# Altium integrated library connector.IntLib: 180 symbols
Pins are listed as number, name and electrical type; pins without a type are passive.

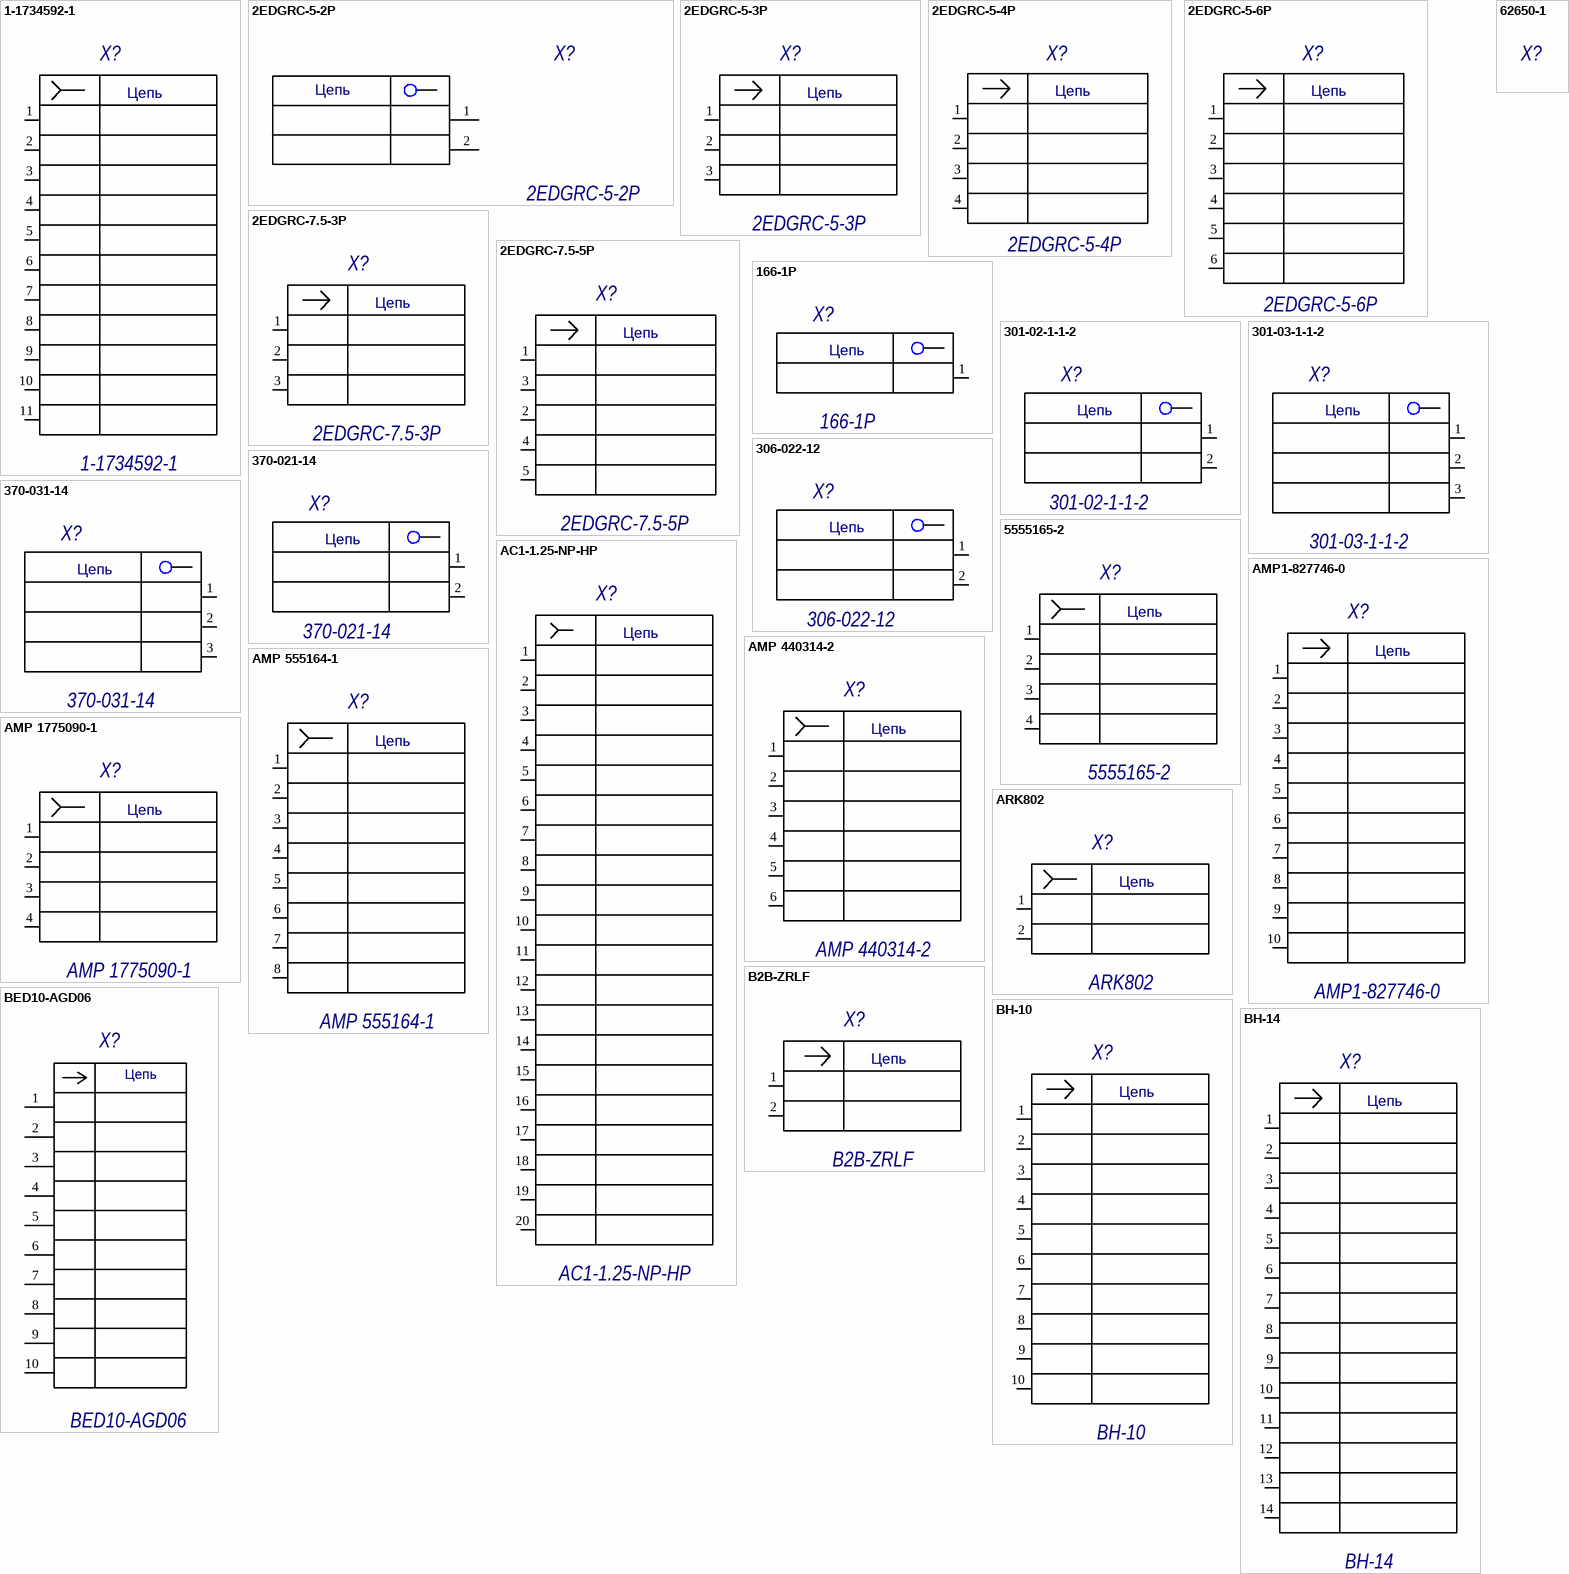
[diagram p0: symbols 1-1734592-1 to BH-14]

## 1-1734592-1
designator X?
Value: *
footprint 1-1734592-1
pins: 1 A1, 2 A2, 3 A3, 4 A4, 5 A5, 6 A6, 7 A7, 8 A8, 9 A9, 10 A10, 11 A11
text: Цепь

## 2EDGRC-5-2P
designator X?
Value: *
footprint 2EDGRC-5-2P
pins: 1 A1, 2 A2
text: Цепь

## 2EDGRC-5-3P
designator X?
Value: *
footprint 2EDGRC-5-3P
pins: 1 A1, 2 A2, 3 A3
text: Цепь

## 2EDGRC-5-4P
designator X?
Value: *
footprint 2EDGRC-5-4P
pins: 1 A1, 2 A2, 3 A3, 4 A4
text: Цепь

## 2EDGRC-5-6P
designator X?
Value: *
footprint 2EDGRC-5-6P
pins: 1 A1, 2 A2, 3 A3, 4 A4, 5 A5, 6 A6
text: Цепь

## 2EDGRC-7.5-3P
designator X?
Value: *
footprint 2EDGRC-7.5-3P
pins: 1 A1, 2 A2, 3 A3
text: Цепь

## 2EDGRC-7.5-5P
designator X?
Value: *
footprint 2EDGRC-7.5-5P
pins: 1 A1, 2 A3, 3 A2, 4 A4, 5 A5
text: Цепь

## 166-1P
designator X?
Value: *
footprint 166-1P
pins: 1 A1
text: Цепь

## 301-02-1-1-2
designator X?
Value: *
footprint 301-02-1-1-2
pins: 1 A1, 2 A2
text: Цепь

## 301-03-1-1-2
designator X?
Value: *
footprint 301-03-1-1-2
pins: 1 A1, 2 A2, 3 A3
text: Цепь

## 306-022-12
designator X?
Value: *
footprint 306-022-12
pins: 1 A1, 2 A2
text: Цепь

## 370-021-14
designator X?
Value: *
footprint PK700/2/500-V
pins: 1 A1, 2 A2
text: Цепь

## 370-031-14
designator X?
Value: *
footprint PK700/3/500-V
pins: 1 A1, 2 A2, 3 A3
text: Цепь

## 62650-1
designator X?  (value not drawn)
Value: *
footprint 62650-1

## 5555165-2
designator X?
Value: *
footprint 5555165-2
pins: 1 A1, 2 A2, 3 A3, 4 A4, 5 hidden, 6 hidden
text: Цепь

## AC1-1.25-NP-HP
designator X?
Value: *
footprint AC1-1.25-NP-HP
pins: 1 A1, 2 A2, 3 A3, 4 A4, 5 A5, 6 A6, 7 A7, 8 A8, 9 A9, 10 A10, 11 A11, 12 A12, 13 A13, 14 A14, 15 A15, 16 A16, 17 A17, 18 A18, 19 A19, 20 A20
text: Цепь

## AMP1-827746-0
designator X?
Value: *
footprint AMP1-827746-0
pins: 1 A1, 2 A2, 3 A3, 4 A4, 5 A5, 6 A6, 7 A7, 8 A8, 9 A9, 10 A10
text: Цепь

## AMP 440314-2
designator X?
Value: *
footprint AMP 440314-2
pins: 1 A1, 2 A2, 3 A3, 4 A4, 5 A5, 6 A6
text: Цепь

## AMP 555164-1
designator X?
Value: *
footprint AMP 555164-1
pins: 1 A1, 2 A2, 3 A3, 4 A4, 5 A5, 6 A6, 7 A7, 8 A8, 9 hidden, 10 hidden
text: Цепь

## AMP 1775090-1
designator X?
Value: *
footprint AMP1775090-1
pins: 1 A1, 2 A2, 3 A3, 4 A4, 5 hidden, 6 hidden
text: Цепь

## ARK802
designator X?
Value: *
footprint ARK802
pins: 1 A1, 2 A2
text: Цепь

## B2B-ZRLF
designator X?
Value: *
footprint B2B-ZRLF
pins: 1 A1, 2 A2
text: Цепь

## BED10-AGD06
designator X?
Value: *
footprint BED10-AGD06
pins: 1 A1, 2 A2, 3 A3, 4 A4, 5 A5, 6 A6, 7 A7, 8 A8, 9 A9, 10 A10
text: Цепь

## BH-10
designator X?
Value: *
footprint BH-10
pins: 1 A1, 2 A2, 3 A3, 4 A4, 5 A5, 6 A6, 7 A7, 8 A8, 9 A9, 10 A10
text: Цепь

## BH-14
designator X?
Value: *
footprint BH-14
pins: 1 A1, 2 A2, 3 A3, 4 A4, 5 A5, 6 A6, 7 A7, 8 A8, 9 A9, 10 A10, 11 A11, 12 A12, 13 A13, 14 A14
text: Цепь

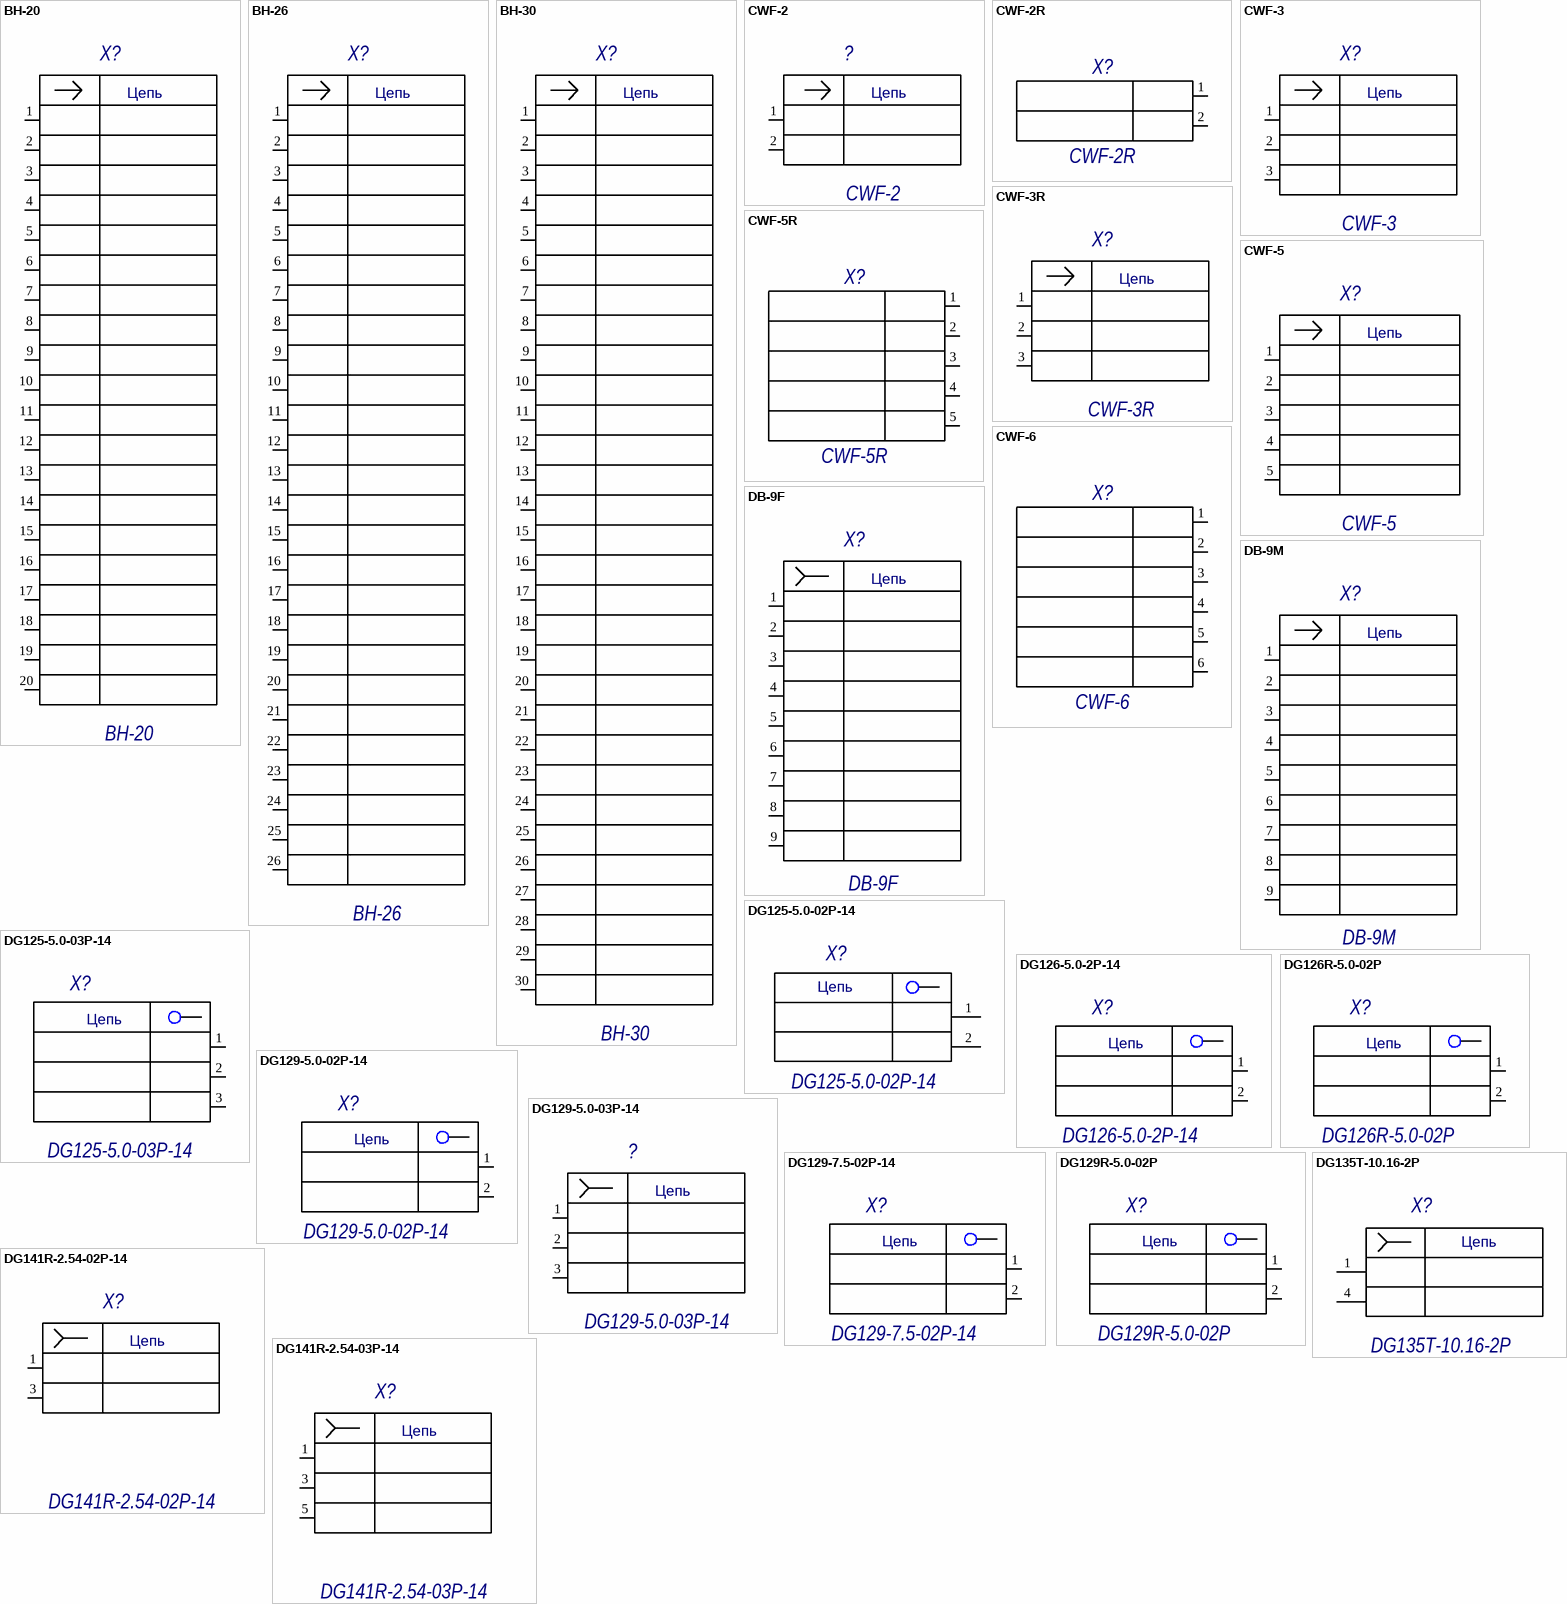
[diagram p1: symbols BH-20 to DG141R-2.54-03P-14]

## BH-20
designator X?
Value: *
footprint BH-20
pins: 1 A1, 2 A2, 3 A3, 4 A4, 5 A5, 6 A6, 7 A7, 8 A8, 9 A9, 10 A10, 11 A11, 12 A12, 13 A13, 14 A14, 15 A15, 16 A16, 17 A17, 18 A18, 19 A19, 20 A20
text: Цепь

## BH-26
designator X?
Value: *
footprint BH-26
pins: 1 A1, 2 A2, 3 A3, 4 A4, 5 A5, 6 A6, 7 A7, 8 A8, 9 A9, 10 A10, 11 A3, 12 A4, 13 A5, 14 A6, 15 A7, 16 A8, 17 A9, 18 A10, 19 A3, 20 A4, 21 A5, 22 A6, 23 A7, 24 A8, 25 A9, 26 A10
text: Цепь

## BH-30
designator X?
Value: *
footprint BH-30
pins: 1 A1, 2 A2, 3 A3, 4 A4, 5 A5, 6 A6, 7 A7, 8 A8, 9 A9, 10 A10, 11 A3, 12 A4, 13 A5, 14 A6, 15 A7, 16 A8, 17 A9, 18 A10, 19 A3, 20 A4, 21 A5, 22 A6, 23 A7, 24 A8, 25 A9, 26 A10, 27 A7, 28 A8, 29 A9, 30 A10
text: Цепь

## CWF-2
designator ?
Value: *
footprint CWF-2
pins: 1 A1, 2 A2
text: Цепь

## CWF-2R
designator X?
Value: *
footprint CWF-2R
pins: 1, 2

## CWF-3
designator X?
Value: *
footprint CWF-3
pins: 1 A1, 2 A2, 3 A3
text: Цепь

## CWF-3R
designator X?
Value: *
footprint CWF-3R
pins: 1 A1, 2 A2, 3 A3
text: Цепь

## CWF-5
designator X?
Value: *
footprint CWF-5
pins: 1 A1, 2 A2, 3 A3, 4 A4, 5 A5
text: Цепь

## CWF-5R
designator X?
Value: *
footprint CWF-5R
pins: 1, 2, 3, 4, 5

## CWF-6
designator X?
Value: *
footprint CWF-6
pins: 1, 2, 3, 4, 5, 6

## DB-9F
designator X?
Value: *
footprint DB9F
pins: 1 A1, 2 A2, 3 A3, 4 A4, 5 A5, 6 A6, 7 A7, 8 A8, 9 A9, 10 hidden, 11 hidden
text: Цепь

## DB-9M
designator X?
Value: *
footprint DB9M
pins: 1 A1, 2 A2, 3 A3, 4 A4, 5 A5, 6 A6, 7 A7, 8 A8, 9 A9, 10 hidden, 11 hidden
text: Цепь

## DG125-5.0-02P-14
designator X?
Value: *
footprint DG125-5.0-02P-14
pins: 1 A1, 2 A2
text: Цепь

## DG125-5.0-03P-14
designator X?
Value: *
footprint DG125-5.0-03P-14
pins: 1 A1, 2 A2, 3 A3
text: Цепь

## DG126-5.0-2P-14
designator X?
Value: *
footprint DG126-5.0-2P-14 (Terminal block)
pins: 1 A1, 2 A2
text: Цепь

## DG126R-5.0-02P
designator X?
Value: *
footprint DG126R-5.0
pins: 1 A1, 2 A2
text: Цепь

## DG129-5.0-02P-14
designator X?
Value: *
footprint DG129-5.0-02P-14
pins: 1 A1, 2 A2
text: Цепь

## DG129-5.0-03P-14
designator ?
Value: *
footprint DG129-05-03P-14
pins: 1 A1, 2 A2, 3 A3
text: Цепь

## DG129-7.5-02P-14
designator X?
Value: *
footprint DG129-7.5-02P-14
pins: 1 A1, 2 A2
text: Цепь

## DG129R-5.0-02P
designator X?
Value: *
footprint DG129R-5.0
pins: 1 A1, 2 A2
text: Цепь

## DG135T-10.16-2P
designator X?
Value: *
footprint DG135T-10.16-2P
pins: 1 A1, 2 hidden, 3 hidden, 4 A2
text: Цепь

## DG141R-2.54-02P-14
designator X?
Value: *
footprint DG141R-2.54-02P-14
pins: 1 A1, 2 A1, 3 A2, 4 A2
text: Цепь

## DG141R-2.54-03P-14
designator X?
Value: *
footprint DG141R-2.54-03P-14
pins: 1 A1, 2 A1, 3 A2, 4 A2, 5 A3, 6 A3
text: Цепь

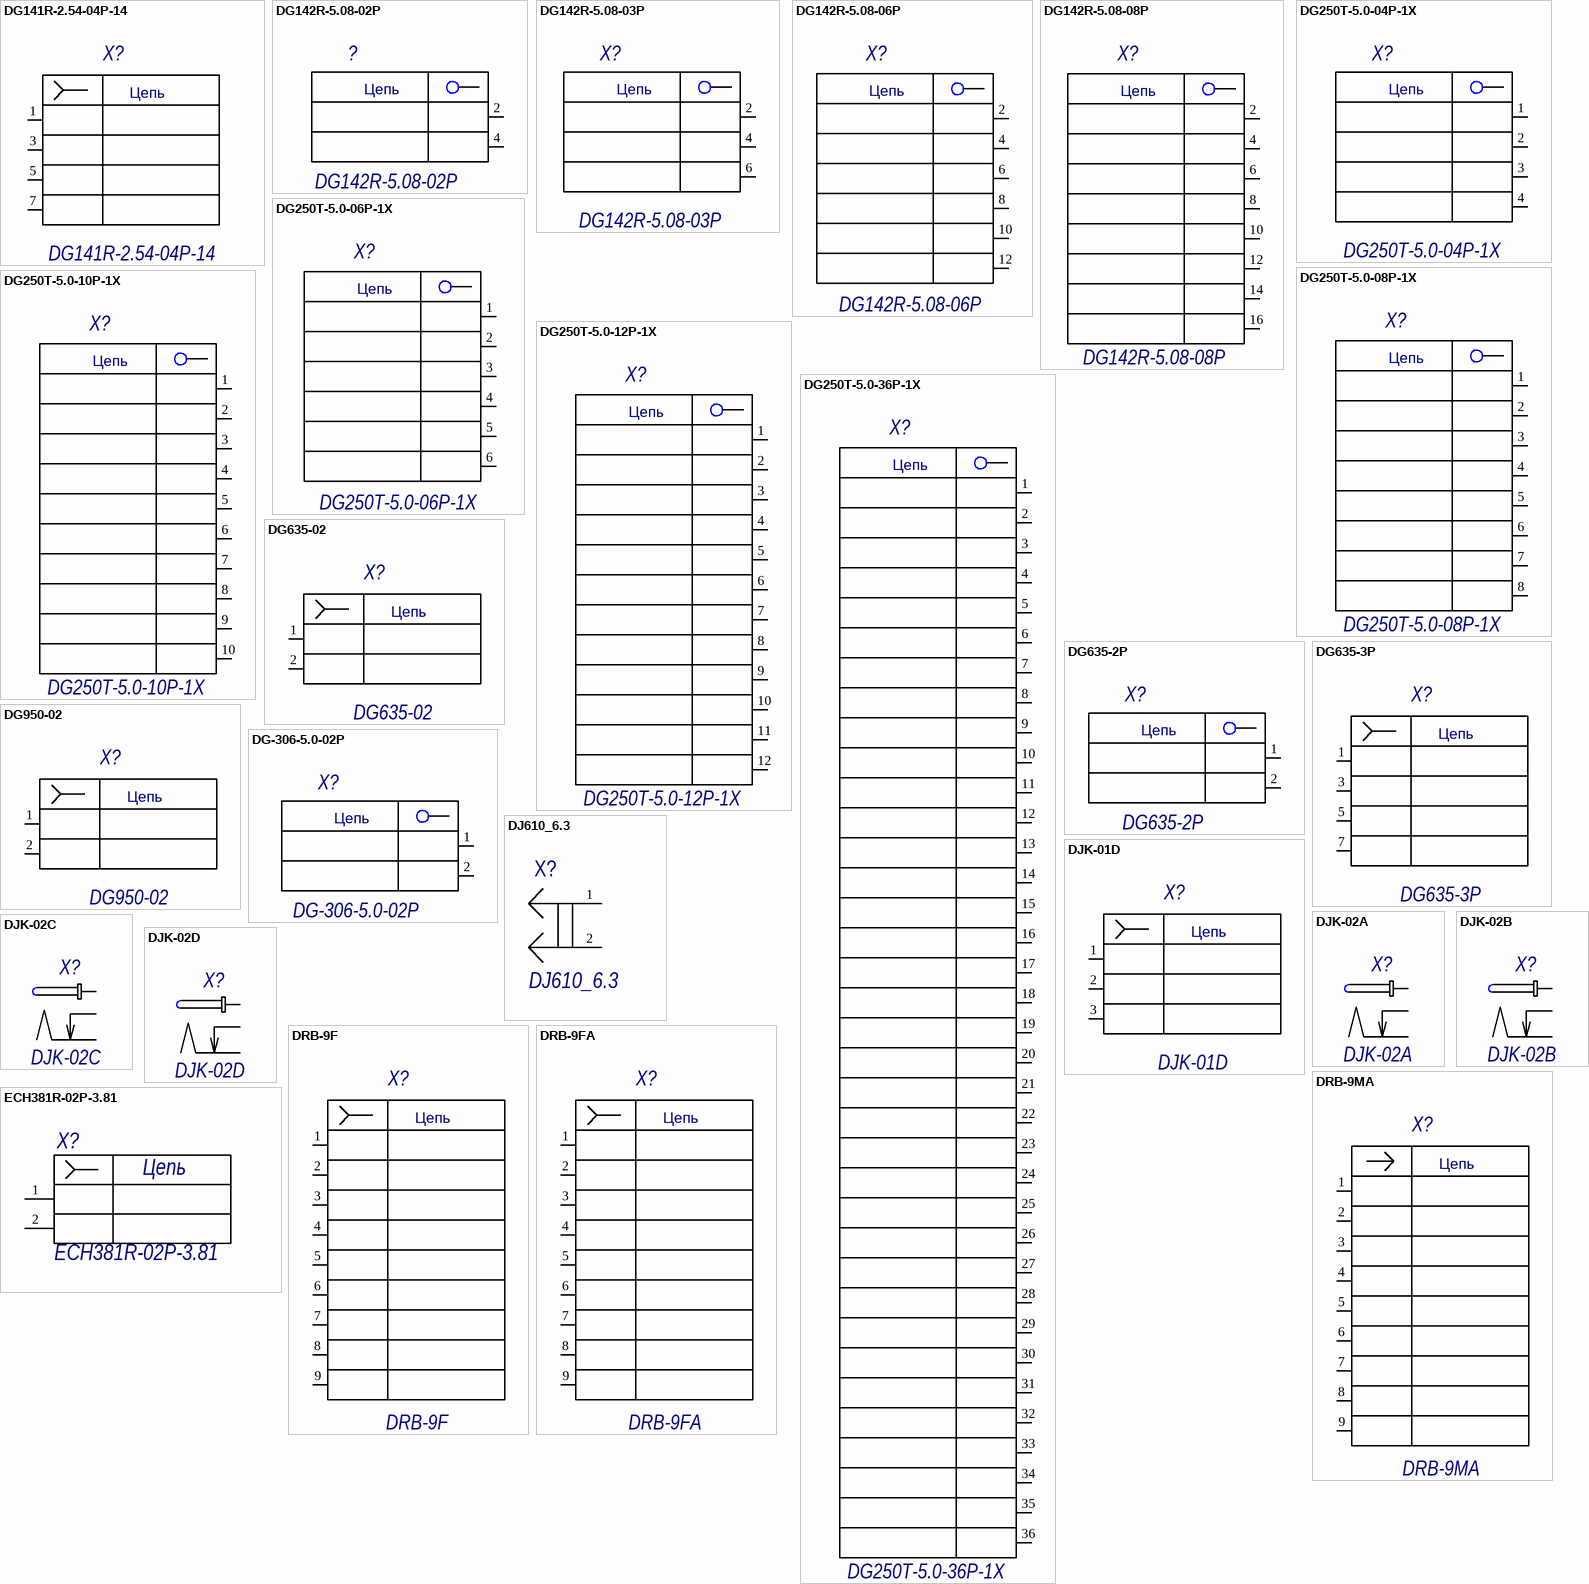
[diagram p2: symbols DG141R-2.54-04P-14 to ECH381R-02P-3.81]

## DG141R-2.54-04P-14
designator X?
Value: *
footprint DG141R-2.54-04P-14
pins: 1 A1, 2 A1, 3 A2, 4 A2, 5 A3, 6 A3, 7 A4, 8 A4
text: Цепь

## DG142R-5.08-02P
designator ?
Value: *
footprint DG142R-5.08-02P
pins: 1 hidden, 2, 3 hidden, 4
text: Цепь

## DG142R-5.08-03P
designator X?
Value: *
footprint DG142R-5.08-03P
pins: 1 hidden, 2, 3 hidden, 4, 5 hidden, 6
text: Цепь

## DG142R-5.08-06P
designator X?
Value: *
footprint DG142R-5.08-06P
pins: 1 hidden, 2, 3 hidden, 4, 5 hidden, 6, 7 hidden, 8, 9 hidden, 10, 11 hidden, 12
text: Цепь

## DG142R-5.08-08P
designator X?
Value8: {Value8}; Value7: {Value7}; Value5: {Value5}; Value4: {Value4}; Value2: {Value2}; Value1: {Value1}; Value6: {Value6}; Value3: {Value3}; Value: *
footprint DG142R-5.08-08P
pins: 1 hidden, 2, 3 hidden, 4, 5 hidden, 6, 7 hidden, 8, 9 hidden, 10, 11 hidden, 12, 13 hidden, 14, 15 hidden, 16
text: Цепь

## DG250T-5.0-04P-1X
designator X?
Value: *
footprint DG250T-5.0-04P-1X
pins: 1 A1, 2 A2, 3 A3, 4 A4
text: Цепь

## DG250T-5.0-06P-1X
designator X?
Value: *
footprint DG250T-5.0-06P-1X
pins: 1, 2, 3, 4, 5, 6
text: Цепь

## DG250T-5.0-08P-1X
designator X?
Value8: {Value8}; Value7: {Value7}; Value5: {Value5}; Value4: {Value4}; Value2: {Value2}; Value1: {Value1}; Value6: {Value6}; Value3: {Value3}; Value: *
footprint DG250T-5.0-08P-1X
pins: 1, 2, 3, 4, 5, 6, 7, 8
text: Цепь

## DG250T-5.0-10P-1X
designator X?
Value10: {Value10}; Value8: {Value8}; Value7: {Value7}; Value5: {Value5}; Value4: {Value4}; Value2: {Value2}; Value1: {Value1}; Value9: {Value9}; Value6: {Value6}; Value3: {Value3}; Value: *
footprint DG250T-5.0-10P-1X
pins: 1, 2, 3, 4, 5, 6, 7, 8, 9, 10
text: Цепь

## DG250T-5.0-12P-1X
designator X?
Value11: {Value11}; Value10: {Value10}; Value8: {Value8}; Value7: {Value7}; Value5: {Value5}; Value4: {Value4}; Value2: {Value2}; Value1: {Value1}; Value12: {Value12}; Value9: {Value9}; Value6: {Value6}; Value3: {Value3}; Value: *
footprint DG250T-5.0-12P-1X
pins: 1, 2, 3, 4, 5, 6, 7, 8, 9, 10, 11, 12
text: Цепь

## DG250T-5.0-36P-1X
designator X?
Value36: {Value36}; Value34: {Value34}; Value33: {Value33}; Value31: {Value31}; Value30: {Value30}; Value28: {Value28}; Value27: {Value27}; Value25: {Value25}; Value24: {Value24}; Value22: {Value22}; Value21: {Value21}; Value19: {Value19}; Value18: {Value18}; Value16: {Value16}; Value15: {Value15}; Value13: {Value13}; Value12: {Value12}; Value10: {Value10}; Value9: {Value9}; Value7: {Value7}; Value6: {Value6}; Value4: {Value4}; Value3: {Value3}; Value1: {Value1}; Value35: {Value35}; Value29: {Value29}; Value32: {Value32}; Value23: {Value23}; Value26: {Value26}; Value17: {Value17}; Value20: {Value20}; Value11: {Value11}; Value14: {Value14}; Value5: {Value5}; Value8: {Value8}; Value2: {Value2}; Value: *
footprint DG250T-5.0-36P-1X
pins: 1, 2, 3, 4, 5, 6, 7, 8, 9, 10, 11, 12, 13, 14, 15, 16, 17, 18, 19, 20, 21, 22, 23, 24, 25, 26, 27, 28, 29, 30, 31, 32, 33, 34, 35, 36
text: Цепь

## DG635-02
designator X?
Value: *
footprint DG635-02_DG635-02(Primary)
pins: 1 A1, 2 A2
text: Цепь

## DG635-2P
designator X?
Value: *
footprint PK700/2/500-V
pins: 1 A1, 2 A2
text: Цепь

## DG635-3P
designator X?
Value: *
footprint DG141R-2.54-04P-14
pins: 1 A1, 2 A1, 3 A2, 4 A2, 5 A3, 6 A3, 7 A4, 8 A4
text: Цепь

## DG950-02
designator X?
Value: *
footprint DG950-02
pins: 1 A1, 2 A2
text: Цепь

## DG-306-5.0-02P
designator X?
Value: *
footprint DG-306-5.0-02P
pins: 1 A1, 2 A2
text: Цепь

## DJ610_6.3
designator X?
footprint DJ610_6.3
pins: 1 A, 2 B

## DJK-01D
designator X?
Value: *
footprint DJK-01D
pins: 1 A1, 2 A2, 3 A3
text: Цепь

## DJK-02A
designator X?
Value: *
footprint DJK-02
pins: 1, 2, 3

## DJK-02B
designator X?
Value: *
footprint DJK-02
pins: 1, 2, 3

## DJK-02C
designator X?
Value: *
footprint DJK-02
pins: 1, 2, 3

## DJK-02D
designator X?
Value: *
footprint DJK-02
pins: 1, 2, 3

## DRB-9F
designator X?
Value: *
footprint DB9RF
pins: 1 A1, 2 A2, 3 A3, 4 A4, 5 A5, 6 A6, 7 A7, 8 A8, 9 A9, 10 hidden, 11 hidden
text: Цепь

## DRB-9FA
designator X?
Value: *
footprint DRB-9FA
pins: 1 A1, 2 A2, 3 A3, 4 A4, 5 A5, 6 A6, 7 A7, 8 A8, 9 A9, 10 hidden, 11 hidden
text: Цепь

## DRB-9MA
designator X?
Value: *
footprint DRB-9MA
pins: 1 A1, 2 A2, 3 A3, 4 A4, 5 A5, 6 A6, 7 A7, 8 A8, 9 A9, 10 hidden, 11 hidden
text: Цепь

## ECH381R-02P-3.81
designator X?
footprint ECH381R-02P-3.81
pins: 1, 2
text: Цепь

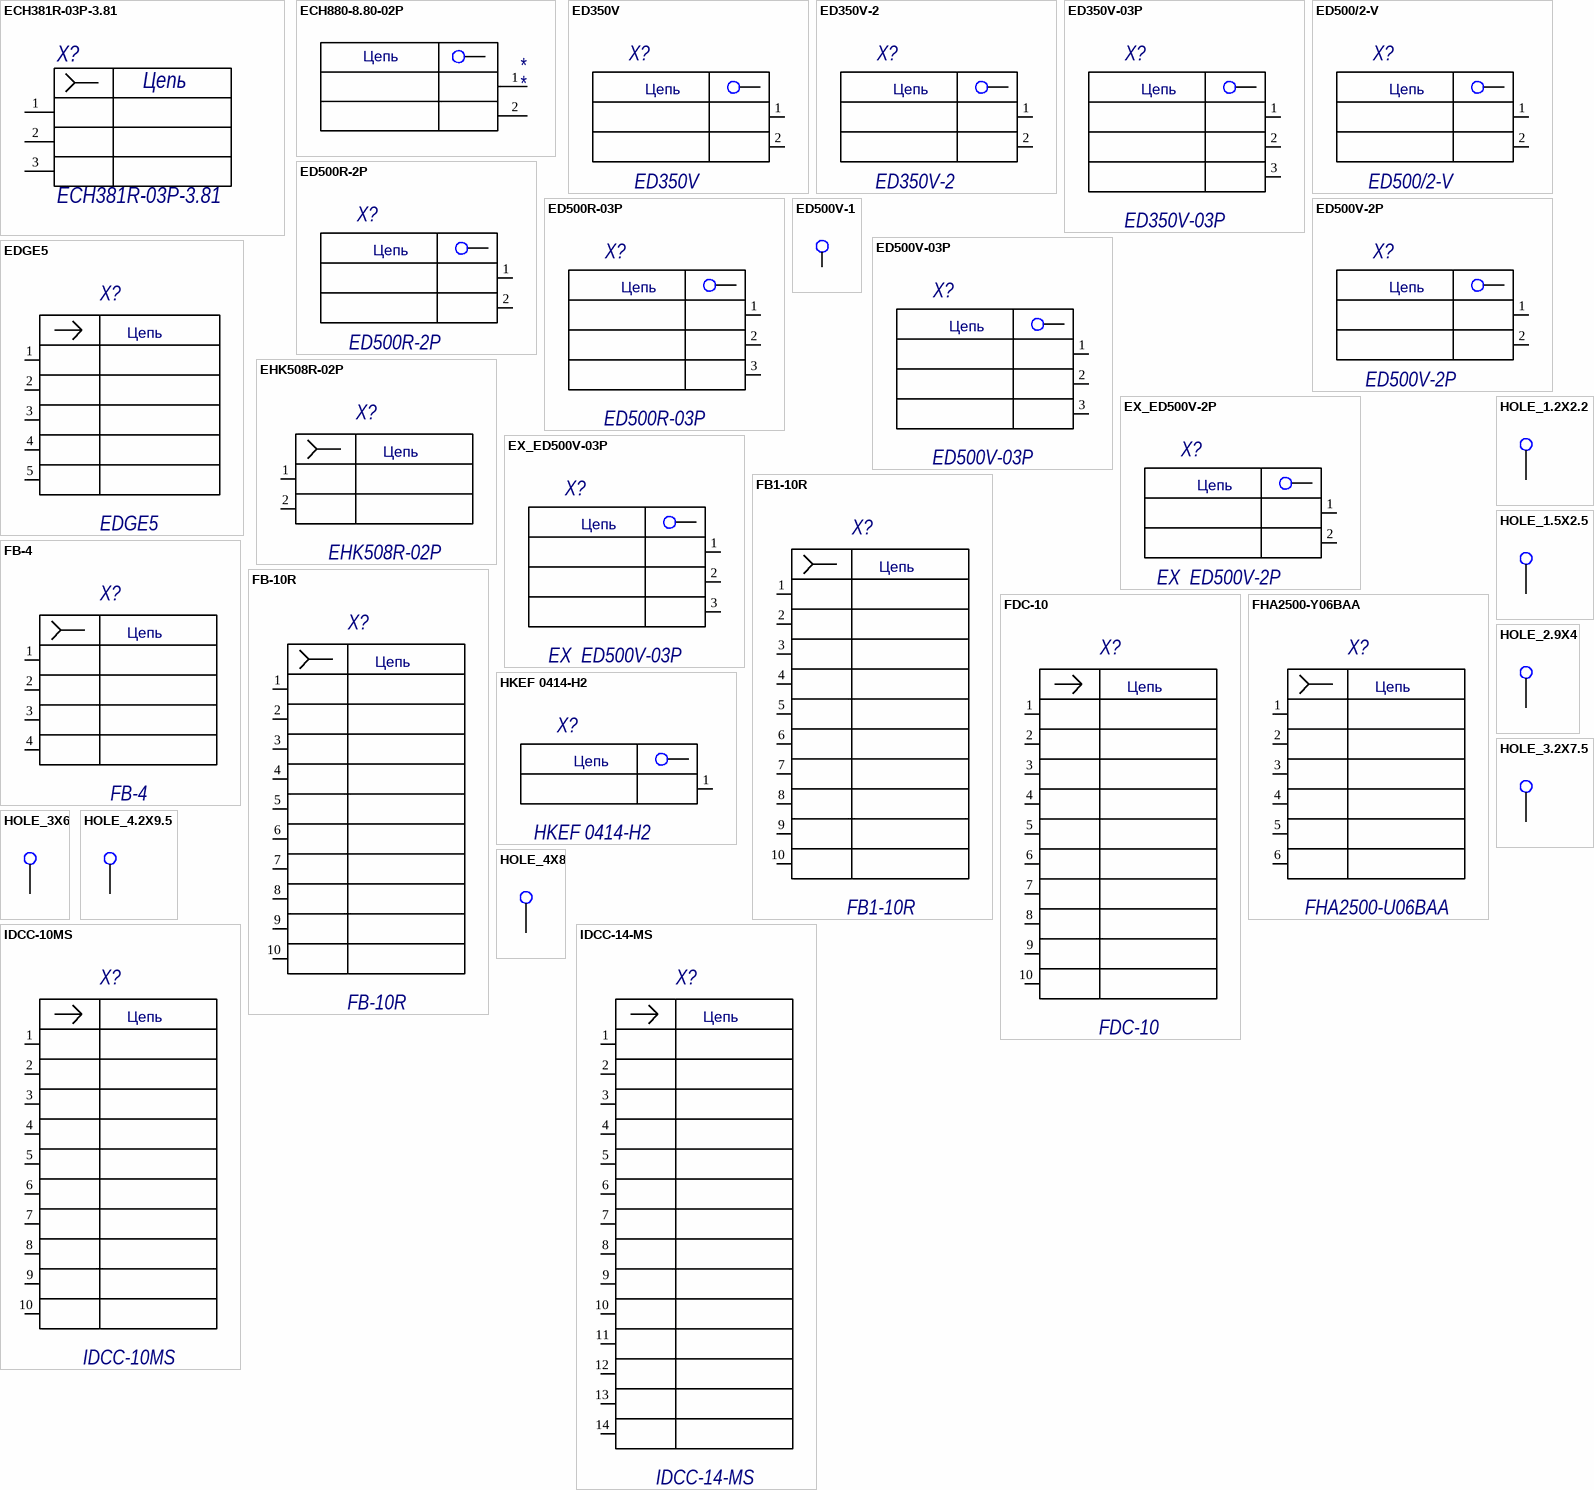
[diagram p3: symbols ECH381R-03P-3.81 to IDCC-14-MS]

## ECH381R-03P-3.81
designator X?
footprint ECH381R-03P-3.81
pins: 1, 2, 3
text: Цепь

## ECH880-8.80-02P
designator *
footprint EC880
pins: 1 A1, 2 A2
text: Цепь

## ED350V
designator X?
Value: *
footprint ED350V
pins: 1 A1, 2 A2
text: Цепь

## ED350V-2
designator X?
Value: *
footprint ED350V
pins: 1 A1, 2 A2
text: Цепь

## ED350V-03P
designator X?
Value: *
footprint ED350V-03P
pins: 1 A1, 2 A2, 3 A3
text: Цепь

## ED500/2-V
designator X?
Value: *
footprint ED500/2-V
pins: 1 A1, 2 A2
text: Цепь

## ED500R-2P
designator X?
Value: *
footprint ED500R-2P
pins: 1 A1, 2 A2
text: Цепь

## ED500R-03P
designator X?
Value: *
footprint ED500R-3P
pins: 1 A1, 2 A2, 3 A3
text: Цепь

## ED500V-1
designator X?  (value not drawn)
excluded: {excluded}; Value: *
footprint ED500/1-V
pins: 1 V

## ED500V-2P
designator X?
Value: *
footprint ED500V-2P
pins: 1 A1, 2 A2
text: Цепь

## ED500V-03P
designator X?
Value: *
footprint ED500V-03P
pins: 1 A1, 2 A2, 3 A3
text: Цепь

## EDGE5
designator X?
Value: *
footprint EDGE5
pins: 1, 2, 3, 4, 5
text: Цепь

## EHK508R-02P
designator X?
Value: *
footprint EHK508R
pins: 1 A1, 2 A2
text: Цепь

## EX_ED500V-2P
designator X?
Value: *
footprint EX_ED500V-2P
pins: 1, 2
text: Цепь

## EX_ED500V-03P
designator X?
Value: *
footprint EX_ED500V-03P
pins: 1, 2, 3
text: Цепь

## FB1-10R
designator X?
Value: *
footprint FB1-10R
pins: 1 A1, 2 A2, 3 A3, 4 A4, 5 A5, 6 A6, 7 A7, 8 A8, 9 A9, 10 A10
text: Цепь

## FB-4
designator X?
Value: *
footprint FB4_Primary
footprint FB4_Second
pins: 1 A1, 2 A2, 3 A3, 4 A4
text: Цепь

## FB-10R
designator X?
Value: *
footprint FB-10R
pins: 1 A1, 2 A2, 3 A3, 4 A4, 5 A5, 6 A6, 7 A7, 8 A8, 9 A9, 10 A10
text: Цепь

## FDC-10
designator X?
Value: *
footprint FDC-10
pins: 1 A1, 2 A2, 3 A3, 4 A4, 5 A5, 6 A6, 7 A7, 8 A8, 9 A9, 10 A10
text: Цепь

## FHA2500-Y06BAA
designator X?, comment FHA2500-U06BAA
Value: *
footprint FHA2500-U06BAA
pins: 1 A1, 2 A2, 3 A5, 4 A4, 5 A3, 6 A6
text: Цепь

## HKEF 0414-H2
designator X?
Value: *
footprint HKEF 0414-H2
pins: 1 A1
text: Цепь

## HOLE_1.2X2.2
designator P?  (value not drawn)
excluded: {excluded}; Value: *
footprint HOLE_1.2X2.2
pins: 1

## HOLE_1.5X2.5
designator P?  (value not drawn)
excluded: {excluded}; Value: *
footprint HOLE_1.5X2.5
pins: 1

## HOLE_2.9X4
designator P?  (value not drawn)
excluded: {excluded}; Value: *
footprint HOLE_2.9X4
pins: 1

## HOLE_3.2X7.5
designator P?  (value not drawn)
excluded: {excluded}; Value: *
footprint HOLE_3.2X7.5
pins: 1

## HOLE_3X6
designator P?  (value not drawn)
excluded: {excluded}; Value: *
footprint HOLE_3X6
pins: 1

## HOLE_4.2X9.5
designator P?  (value not drawn)
excluded: {excluded}; Value: *
footprint HOLE_4.2X9.5
pins: 1

## HOLE_4X8
designator P?  (value not drawn)
excluded: {excluded}; Value: *
footprint HOLE_4X8
pins: 1

## IDCC-10MS
designator X?
Value: *
footprint BH-10
pins: 1 A1, 2 A2, 3 A3, 4 A4, 5 A5, 6 A6, 7 A7, 8 A8, 9 A9, 10 A10
text: Цепь

## IDCC-14-MS
designator X?
Value: *
footprint PLD14
pins: 1 A1, 2 A2, 3 A3, 4 A4, 5 A5, 6 A6, 7 A7, 8 A8, 9 A9, 10 A10, 11 A11, 12 A12, 13 A13, 14 A14
text: Цепь

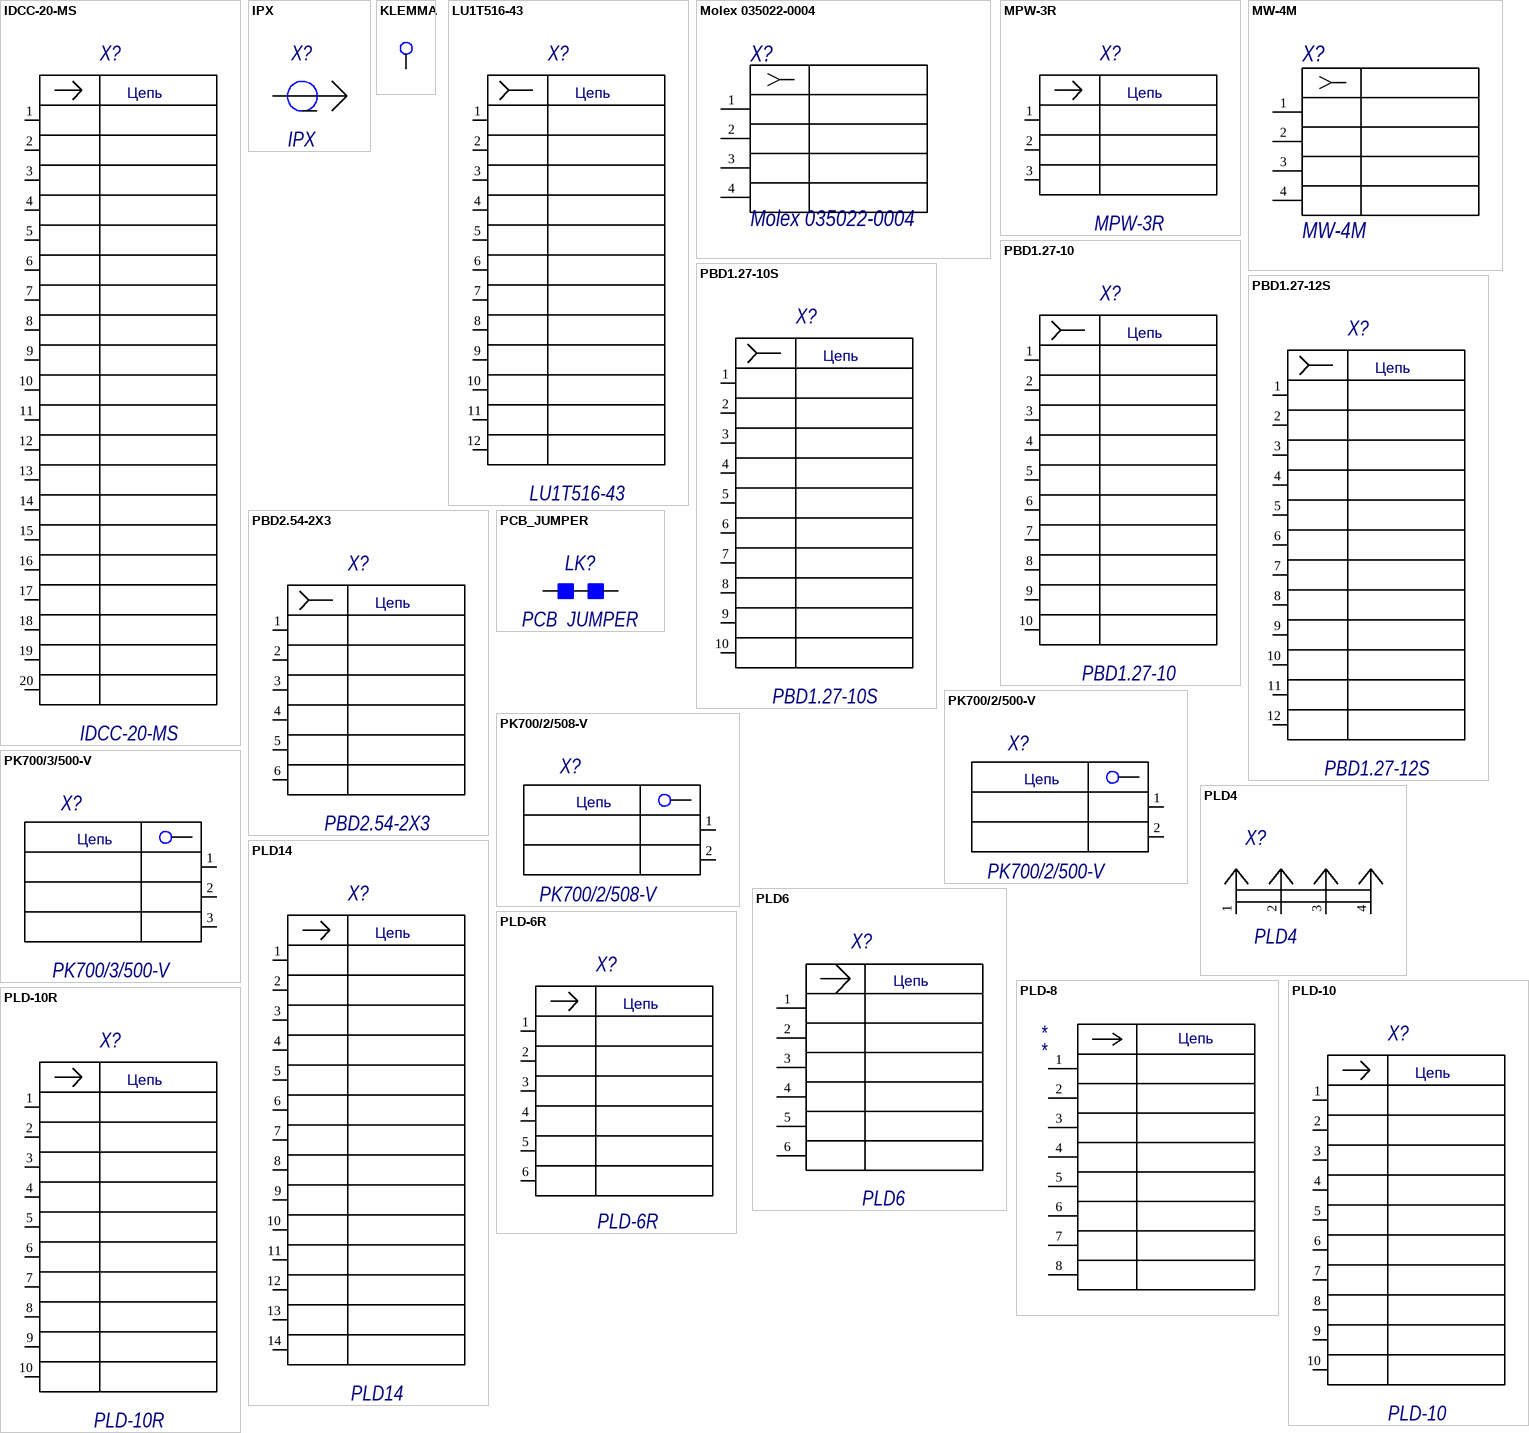
[diagram p4: symbols IDCC-20-MS to PLD-10R]

## IDCC-20-MS
designator X?
Value: *
footprint PLD20
pins: 1 A1, 2 A2, 3 A3, 4 A4, 5 A5, 6 A6, 7 A7, 8 A8, 9 A9, 10 A10, 11 A11, 12 A12, 13 A13, 14 A14, 15 A15, 16 A16, 17 A17, 18 A18, 19 A19, 20 A20
text: Цепь

## IPX
designator X?
Value: *
footprint IPX
pins: 1, 2 AGND (power) hidden, 3 AGND (power) hidden

## KLEMMA
designator P?  (value not drawn)
excluded: {excluded}; Value: *
footprint KLEMMA1
pins: 1 V1

## LU1T516-43
designator X?
Value: *
footprint LU1T516-43
pins: 1 A1, 2 A2, 3 A3, 4 A4, 5 A5, 6 A6, 7 A7, 8 A8, 9 A9, 10 A10, 11 A11, 12 A12
text: Цепь

## Molex 035022-0004
designator X?
Molex 035022-0004 pitch 2.5mm
footprint Molex 035022-0004
pins: 1 A1, 2 A2, 3 A3, 4 A4

## MPW-3R
designator X?
Value: *
footprint MPW-3R
pins: 1 A1, 2 A2, 3 A3
text: Цепь

## MW-4M
designator X?
footprint MW-4M
pins: 1 A1, 2 A2, 3 A3, 4 A4

## PBD1.27-10
designator X?
Value: *
footprint PBD1.27-10
pins: 1 A1, 2 A2, 3 A3, 4 A4, 5 A5, 6 A6, 7 A7, 8 A8, 9 A9, 10 A10
text: Цепь

## PBD1.27-10S
designator X?
Value: *
footprint PBD1.27-10S
pins: 1 A1, 2 A2, 3 A3, 4 A4, 5 A5, 6 A6, 7 A7, 8 A8, 9 A9, 10 A10
text: Цепь

## PBD1.27-12S
designator X?
Value: *
footprint PBD1.27-12S
pins: 1 A1, 2 A2, 3 A3, 4 A4, 5 A5, 6 A6, 7 A7, 8 A8, 9 A9, 10 A10, 11 A11, 12 A12
text: Цепь

## PBD2.54-2X3
designator X?
Value: *
footprint PBD2.54-2X3
pins: 1 A1, 2 A2, 3 A3, 4 A4, 5 A5, 6 A6
text: Цепь

## PCB_JUMPER
designator LK?
Value: *
footprint PCB_JUMPER
pins: 1 A1, 2 A2

## PK700/2/500-V
designator X?
Value: *
footprint PK700/2/500-V
pins: 1 A1, 2 A2
text: Цепь

## PK700/2/508-V
designator X?
Value: *
footprint PK700/2/508-V
pins: 1 A1, 2 A2
text: Цепь

## PK700/3/500-V
designator X?
Value: *
footprint PK700/3/500-V
pins: 1 A1, 2 A2, 3 A3
text: Цепь

## PLD4
designator X?
Value: *
footprint PLD4
pins: 1 A, 2 B, 3 C, 4 D

## PLD6
designator X?
Value: *
footprint PLD6
pins: 1 A1, 2 A2, 3 A3, 4 A4, 5 A5, 6 A6
text: Цепь

## PLD14
designator X?
Value: *
footprint PLD14
pins: 1 A1, 2 A2, 3 A3, 4 A4, 5 A5, 6 A6, 7 A7, 8 A8, 9 A9, 10 A10, 11 A11, 12 A12, 13 A13, 14 A14
text: Цепь

## PLD-6R
designator X?
Value: *
footprint PLD-6R
pins: 1 A1, 2 A2, 3 A3, 4 A4, 5 A5, 6 A6
text: Цепь

## PLD-8
designator *
footprint PLD8
footprint PLD8 - 2.54
pins: 1 A1, 2 A2, 3 A3, 4 A4, 5 A5, 6 A6, 7 A7, 8 A8
text: Цепь

## PLD-10
designator X?
Value: *
footprint PLD10
pins: 1 A1, 2 A2, 3 A3, 4 A4, 5 A5, 6 A6, 7 A7, 8 A8, 9 A9, 10 A10
text: Цепь

## PLD-10R
designator X?
Value: *
footprint PLD-10R
pins: 1 A1, 2 A2, 3 A3, 4 A4, 5 A5, 6 A6, 7 A7, 8 A8, 9 A9, 10 A10
text: Цепь

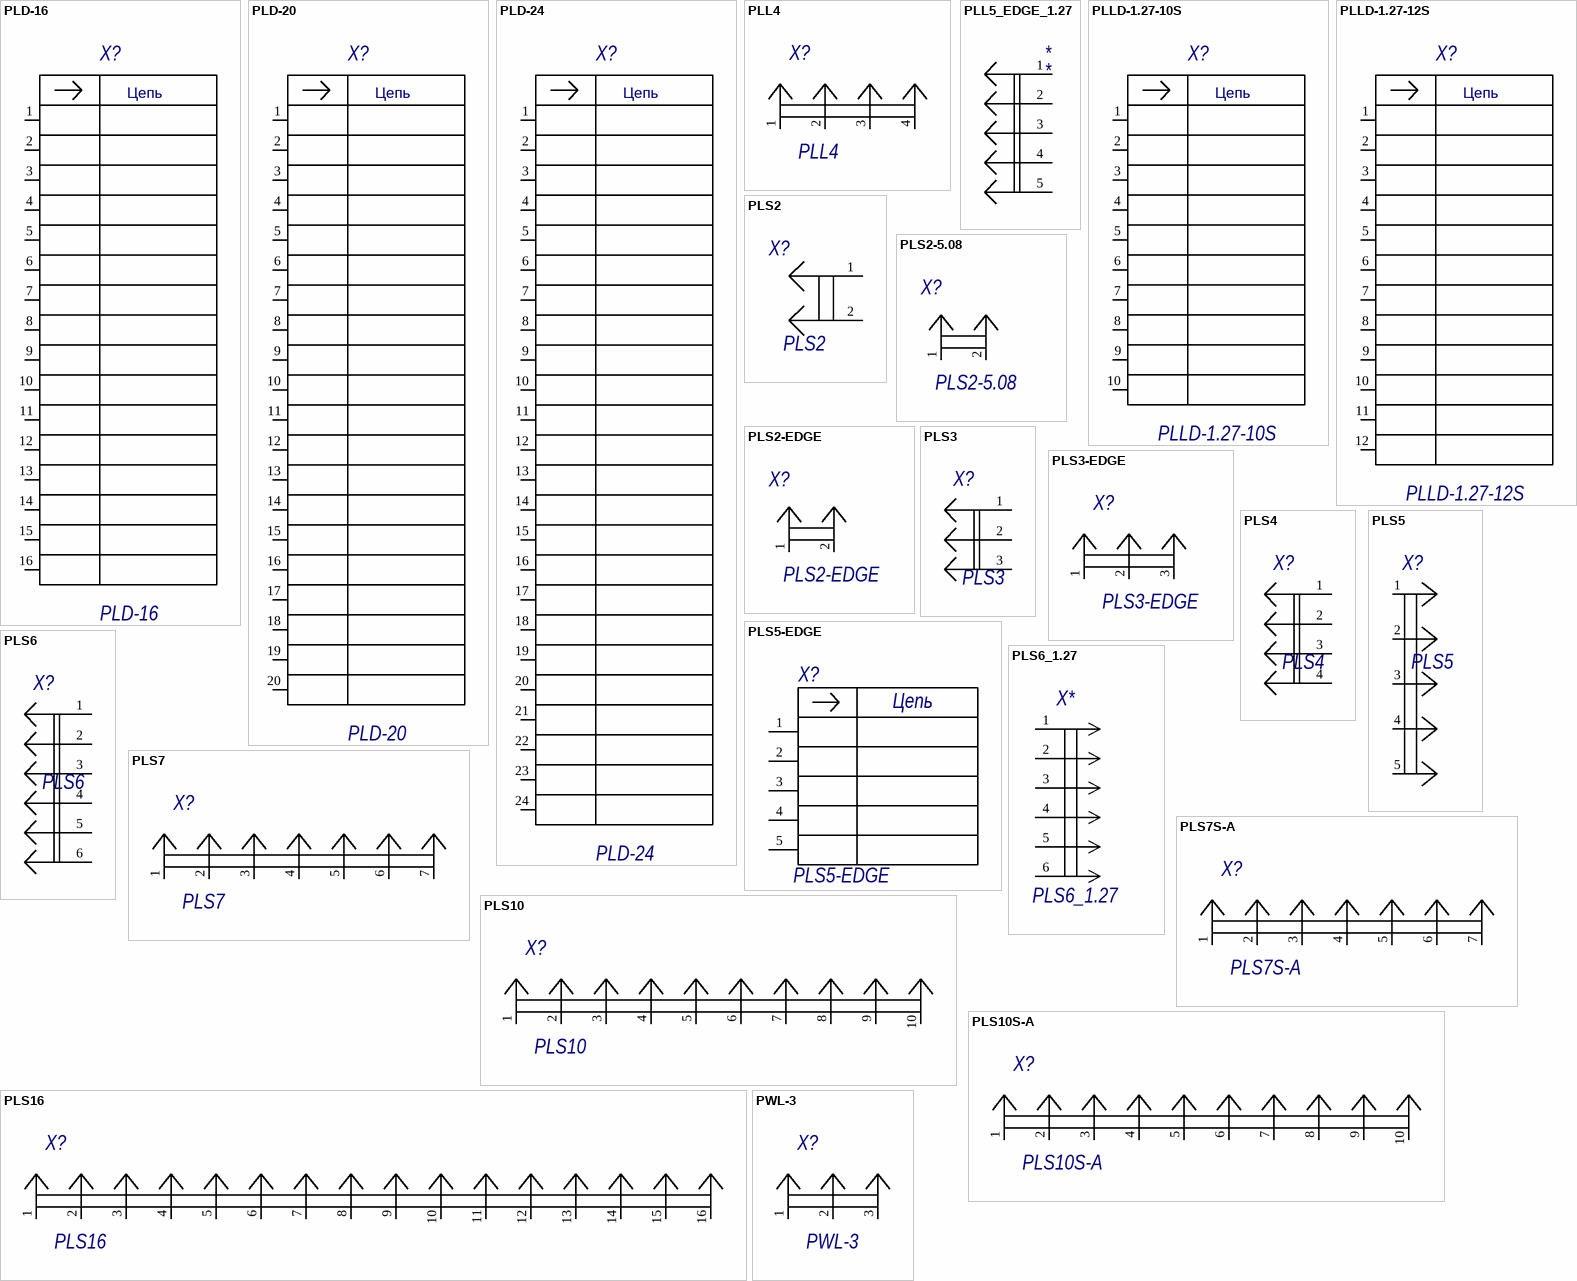
[diagram p5: symbols PLD-16 to PWL-3]

## PLD-16
designator X?
Value: *
footprint PLD16
pins: 1 A1, 2 A2, 3 A3, 4 A4, 5 A5, 6 A6, 7 A7, 8 A8, 9 A9, 10 A10, 11 A11, 12 A12, 13 A13, 14 A14, 15 A15, 16 A16
text: Цепь

## PLD-20
designator X?
Value: *
footprint PLD20
pins: 1 A1, 2 A2, 3 A3, 4 A4, 5 A5, 6 A6, 7 A7, 8 A8, 9 A9, 10 A10, 11 A11, 12 A12, 13 A13, 14 A14, 15 A15, 16 A16, 17 A17, 18 A18, 19 A19, 20 A20
text: Цепь

## PLD-24
designator X?
Value: *
footprint PLD24
pins: 1 A1, 2 A2, 3 A3, 4 A4, 5 A5, 6 A6, 7 A7, 8 A8, 9 A9, 10 A10, 11 A11, 12 A12, 13 A13, 14 A14, 15 A15, 16 A16, 17 A17, 18 A18, 19 A19, 20 A20, 21 A21, 22 A22, 23 A23, 24 A24
text: Цепь

## PLL4
designator X?
Value: *
footprint PLL4
footprint PLS4_EDGE
pins: 1 A, 2 B, 3 C, 4 D

## PLL5_EDGE_1.27
designator *
footprint PLS5_EDGE_1.27
pins: 1 A, 2 B, 3 C, 4 D, 5 E

## PLLD-1.27-10S
designator X?
Value: *
footprint PLLD-1.27-10S
pins: 1 A1, 2 A2, 3 A3, 4 A4, 5 A5, 6 A6, 7 A7, 8 A8, 9 A9, 10 A10
text: Цепь

## PLLD-1.27-12S
designator X?
Value: *
footprint PLLD-1.27-12S
pins: 1 A1, 2 A2, 3 A3, 4 A4, 5 A5, 6 A6, 7 A7, 8 A8, 9 A9, 10 A10, 11 A11, 12 A12
text: Цепь

## PLS2
designator X?
Value: *
footprint PLS2
pins: 1 A, 2 B

## PLS2-5.08
designator X?
Value: *
footprint PLS2-5.08
pins: 1, 2

## PLS2-EDGE
designator X?
Value: *
footprint PLS2_EDGE
pins: 1, 2

## PLS3
designator X?
Value: *
footprint PLS3
pins: 1 A, 2 B, 3 C

## PLS3-EDGE
designator X?
Value: *
footprint PLS3_EDGE
pins: 1, 2, 3

## PLS4
designator X?
Value: *
footprint PLS4
footprint PLS4_EDGE
pins: 1 A, 2 B, 3 C, 4 D

## PLS5
designator X?
Value: *
footprint PLS5
pins: 1 A, 2 B, 3 C, 4 D, 5 E

## PLS5-EDGE
designator X?
Value: *
footprint PLS5_EDGE
pins: 1, 2, 3, 4, 5
text: Цепь

## PLS6
designator X?
Value: *
footprint PLS6_PLS6(Primary)
pins: 1 A, 2 B, 3 C, 4 D, 5 E, 6 F

## PLS6_1.27
designator X*
Connector
footprint PLS6_1.27
pins: 1, 2, 3, 4, 5, 6

## PLS7
designator X?
Value: *
footprint PLS7_PLS7(Primary)
pins: 1, 2, 3, 4, 5, 6, 7

## PLS7S-A
designator X?
Value: *
footprint PLS7S-A
pins: 1, 2, 3, 4, 5, 6, 7

## PLS10
designator X?
Value: *
footprint PLS10
pins: 1, 2, 3, 4, 5, 6, 7, 8, 9, 10

## PLS10S-A
designator X?
Value: *
footprint PLS10S-A
pins: 1, 2, 3, 4, 5, 6, 7, 8, 9, 10

## PLS16
designator X?
Value: *
footprint PLS16
pins: 1, 2, 3, 4, 5, 6, 7, 8, 9, 10, 11, 12, 13, 14, 15, 16

## PWL-3
designator X?
Value: *
footprint PWL-3
pins: 1 A, 2 C, 3 B

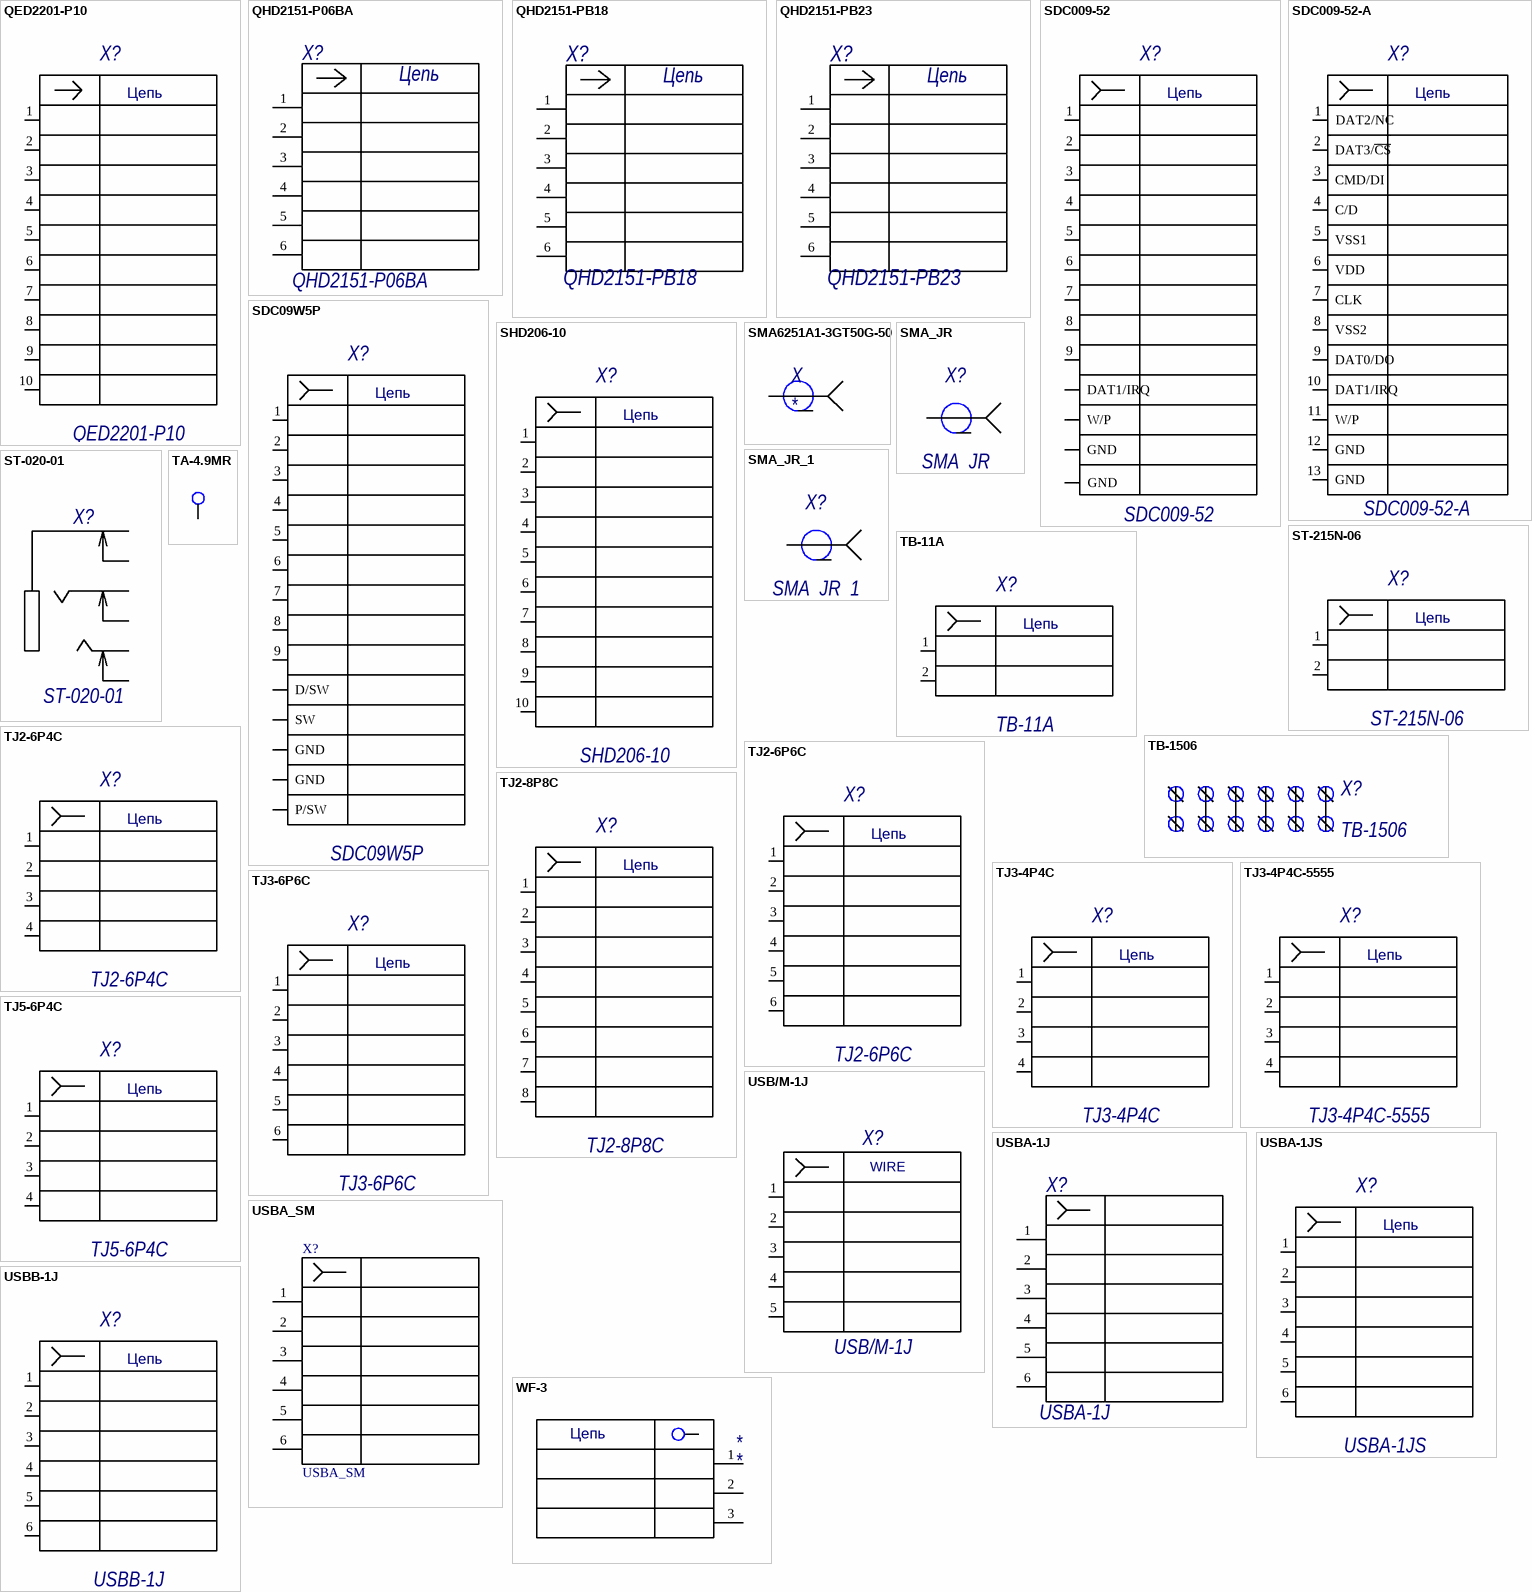
[diagram p6: symbols QED2201-P10 to WF-3]

## QED2201-P10
designator X?
Value: *
footprint QED2201-P10
pins: 1 A1, 2 A2, 3 A3, 4 A4, 5 A5, 6 A6, 7 A7, 8 A8, 9 A9, 10 A10
text: Цепь

## QHD2151-P06BA
designator X?
Connector; Value: *
footprint QHD2151-P06BA
pins: 1 A1, 2 A2, 3 A3, 4 A4, 5 A5, 6 A6
text: Цепь

## QHD2151-PB18
designator X?
Connector; Manufacture: Natconn; Datasheet: *; Height: H = 7mm; Size: D=0.64mm; B=4.86mm; W2=7.5mm
footprint QHD2151-PB18
pins: 1 A1, 2 A2, 3 A3, 4 A4, 5 A5, 6 A6
text: Цепь

## QHD2151-PB23
designator X?
Connector; Manufacture: Natconn; Datasheet: http://api.sst-cloud.com/static/firmware/QHD2151PD23.pdf; Height: H = 8.5mm; Size: D=0.64mm; B=6.36mm; W2=7.5mm
footprint QHD2151-PB23
pins: 1 A1, 2 A2, 3 A3, 4 A4, 5 A5, 6 A6
text: Цепь

## SDC009-52
designator X?
Value: *
footprint SDC009-52
pins: 1 DAT2/NC, 2 DAT3/CS, 3 CMD/DI, 4 CARD_DETECT, 5 VSS1, 6 VDD, 7 CLK, 8 VSS2, 9 DAT0/DO, 10 DAT1/IRQ, 11 W/P, 12 GND, 13 GND
text: Цепь

## SDC009-52-A
designator X?
Value: *
footprint SDC009-52-A
pins: 1 DAT2/NC, 2 DAT3/~{CS}, 3 CMD/DI, 4 C/D, 5 VSS1, 6 VDD, 7 CLK, 8 VSS2, 9 DAT0/DO, 10 DAT1/IRQ, 11 W/P, 12 GND, 13 GND
text: Цепь

## SDC09W5P
designator X?
Value: *
footprint SDC09W5P
pins: 1 A1, 2 A2, 3 A3, 4 A4, 5 A5, 6 A6, 7 A7, 8 A8, 9 A9, 10 D/SW, 11 SW, 12 GND, 13 GND, 14 P/SW
text: Цепь

## SHD206-10
designator X?
Value: *
footprint SHD206-10
pins: 1 A1, 2 A2, 3 A3, 4 A4, 5 A5, 6 A6, 7 A7, 8 A8, 9 A9, 10 A10, 11 hidden, 12 hidden, 13 hidden, 14 hidden, 15 hidden, 16 hidden, 17 hidden, 18 hidden, 19 hidden, 20 hidden
text: Цепь

## SMA6251A1-3GT50G-50
designator X
footprint SMA6251A1-3GT50G-50 - duplicate
pins: 1, 2 SGND (power) hidden, 3 SGND (power) hidden, 4 SGND (power) hidden, 5 SGND (power) hidden

## SMA_JR
designator X?
Value: *
footprint SMA-JR
pins: 1, 2 AGND (power) hidden, 3 AGND (power) hidden, 4 AGND (power) hidden, 5 AGND (power) hidden

## SMA_JR_1
designator X?
Value: *
footprint SMA-JR
pins: 1, 2 GND (power) hidden, 3 GND (power) hidden, 4 GND (power) hidden, 5 GND (power) hidden

## ST-020-01
designator X?
Value: *
footprint ST-020-01
pins: 1, 2, 3, 4, 5, 6

## ST-215N-06
designator X?
Value: *
footprint ST-215N-06
pins: 1 A1, 2 A2
text: Цепь

## TA-4.9MR
designator X?  (value not drawn)
excluded: {excluded}; Value: *
footprint TA-4.9MR
pins: 1 V1, 2 V1

## TB-11A
designator X?
Value: *
footprint TB-11A
pins: 1 A1, 2 A2
text: Цепь

## TB-1506
designator X?
excluded: {excluded}; Value: *
pins: 1, 2, 3, 4, 5, 6, 7, 8, 9, 10, 11, 12

## TJ2-6P4C
designator X?
Value: *
footprint TJ2-6P4C
pins: 1 A1, 2 A2, 3 A3, 4 A4, 5 hidden, 6 hidden
text: Цепь

## TJ2-6P6C
designator X?
Value: *
footprint TJ2-6P6C
pins: 1 A1, 2 A2, 3 A3, 4 A4, 5 A5, 6 A6, 7 hidden, 8 hidden
text: Цепь

## TJ2-8P8C
designator X?
Value: *
footprint TJ2-8P8C
pins: 1 A1, 2 A2, 3 A3, 4 A4, 5 A5, 6 A6, 7 A7, 8 A8, 9 hidden, 10 hidden
text: Цепь

## TJ3-4P4C
designator X?
Value: *
footprint TJ3-4P4C
pins: 1 A2, 2 A4, 3 A1, 4 A3
text: Цепь

## TJ3-4P4C-5555
designator X?
Value: *
footprint TJ3-4P4C-5555_TJ3-4P4C-5555(Primary)
pins: 1 A1, 2 A2, 3 A3, 4 A4
text: Цепь

## TJ3-6P6C
designator X?
Value: *
footprint TJ3-6P6C
pins: 1 A1, 2 A2, 3 A3, 4 A4, 5 A5, 6 A6
text: Цепь

## TJ5-6P4C
designator X?
Value: *
footprint TJ5-6P4C
pins: 1 A1, 2 A2, 3 A3, 4 A4, 5 hidden, 6 hidden
text: Цепь

## USB/M-1J
designator X?
Value: *
footprint USB/M-1J
pins: 1 A1, 2 A2, 3 A3, 4 A4, 5 A5, 6 hidden, 7 hidden, 8 hidden, 9 hidden, 10 hidden, 11 hidden
text: WIRE

## USBA-1J
designator X?
Value: *
footprint USBA-1J
footprint USBA_V
pins: 1 A1, 2 A2, 3 A3, 4 A4, 5 A5, 6 A6

## USBA-1JS
designator X?
Value: *
footprint DS1098-XXX
pins: 1 Vbus, 2 D-, 3 D+, 4 GND, 5 Body, 6 Body
text: Цепь

## USBA_SM
designator X?
USBA surface mount
footprint USBA_SM
pins: 1 GND, 2 A1, 3 A2, 4 5V, 5 GND, 6 GND

## USBB-1J
designator X?
Value: *
footprint USBB-1J
pins: 1 A1, 2 A2, 3 A3, 4 A4, 5 A5, 6 A6
text: Цепь

## WF-3
designator *
footprint WF-3
pins: 1 A1, 2 A2, 3 A3
text: Цепь

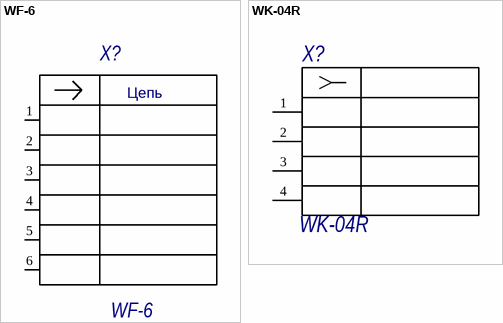
[diagram p7: symbols WF-6 to WK-04R]

## WF-6
designator X?
Value: *
footprint WF-6
pins: 1 A1, 2 A2, 3 A3, 4 A4, 5 A5, 6 A6
text: Цепь

## WK-04R
designator X?
footprint WK-04R
pins: 1 A1, 2 A2, 3 A3, 4 A4